# EAGLE library part FEZ_CERB40 (library bt_arm)
FEZ Cerb40 DIP40 STM32F4 Link: http://www.ghielectronics.com/catalog/product/353/
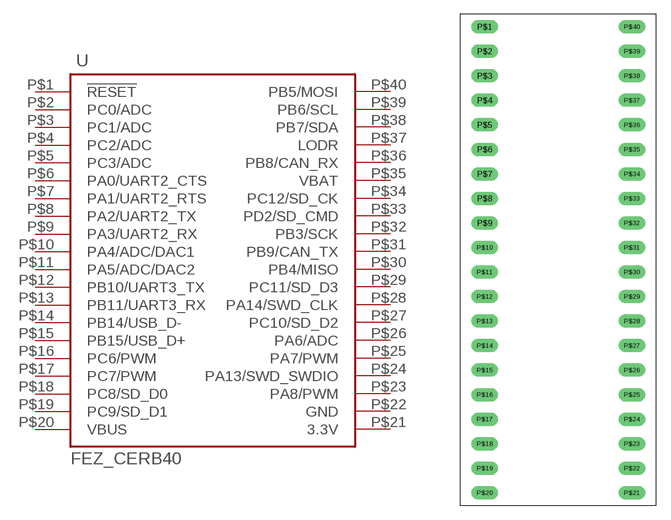
[diagram p1: symbol with the pads of FEZ_CERB40; footprint FEZ_CERB40]

Designator prefix -

## FEZ_CERB40  [FEZ_CERB40]
P$1  !RESET
P$2  PC0/ADC
P$3  PC1/ADC
P$4  PC2/ADC
P$5  PC3/ADC
P$6  PA0/UART2_CTS
P$7  PA1/UART2_RTS
P$8  PA2/UART2_TX
P$9  PA3/UART2_RX
P$10  PA4/ADC/DAC1
P$11  PA5/ADC/DAC2
P$12  PB10/UART3_TX
P$13  PB11/UART3_RX
P$14  PB14/USB_D-
P$15  PB15/USB_D+
P$16  PC6/PWM
P$17  PC7/PWM
P$18  PC8/SD_D0
P$19  PC9/SD_D1
P$20  VBUS
P$21  3.3V
P$22  GND
P$23  PA8/PWM
P$24  PA13/SWD_SWDIO
P$25  PA7/PWM
P$26  PA6/ADC
P$27  PC10/SD_D2
P$28  PA14/SWD_CLK
P$29  PC11/SD_D3
P$30  PB4/MISO
P$31  PB9/CAN_TX
P$32  PB3/SCK
P$33  PD2/SD_CMD
P$34  PC12/SD_CK
P$35  VBAT
P$36  PB8/CAN_RX
P$37  LODR
P$38  PB7/SDA
P$39  PB6/SCL
P$40  PB5/MOSI

## Footprint FEZ_CERB40 (pad centres in mm)
FEZ Cerb40 DIP40 STM32F4 Link: http://www.ghielectronics.com/catalog/product/353/
drill 0.9 long: P$1 -7.62,24.13; P$2 -7.62,21.59; P$3 -7.62,19.05; P$4 -7.62,16.51; P$5 -7.62,13.97; P$6 -7.62,11.43; P$7 -7.62,8.89; P$8 -7.62,6.35; P$9 -7.62,3.81; P$10 -7.62,1.27; P$11 -7.62,-1.27; P$12 -7.62,-3.81; P$13 -7.62,-6.35; P$14 -7.62,-8.89; P$15 -7.62,-11.43; P$16 -7.62,-13.97; P$17 -7.62,-16.51; P$18 -7.62,-19.05; P$19 -7.62,-21.59; P$20 -7.62,-24.13; P$21 7.62,-24.13; P$22 7.62,-21.59; P$23 7.62,-19.05; P$24 7.62,-16.51; P$25 7.62,-13.97; P$26 7.62,-11.43; P$27 7.62,-8.89; P$28 7.62,-6.35; P$29 7.62,-3.81; P$30 7.62,-1.27; P$31 7.62,1.27; P$32 7.62,3.81; P$33 7.62,6.35; P$34 7.62,8.89; P$35 7.62,11.43; P$36 7.62,13.97; P$37 7.62,16.51; P$38 7.62,19.05; P$39 7.62,21.59; P$40 7.62,24.13